# EAGLE library part M16C/6NA(100PIN) (library renesas_mcu)
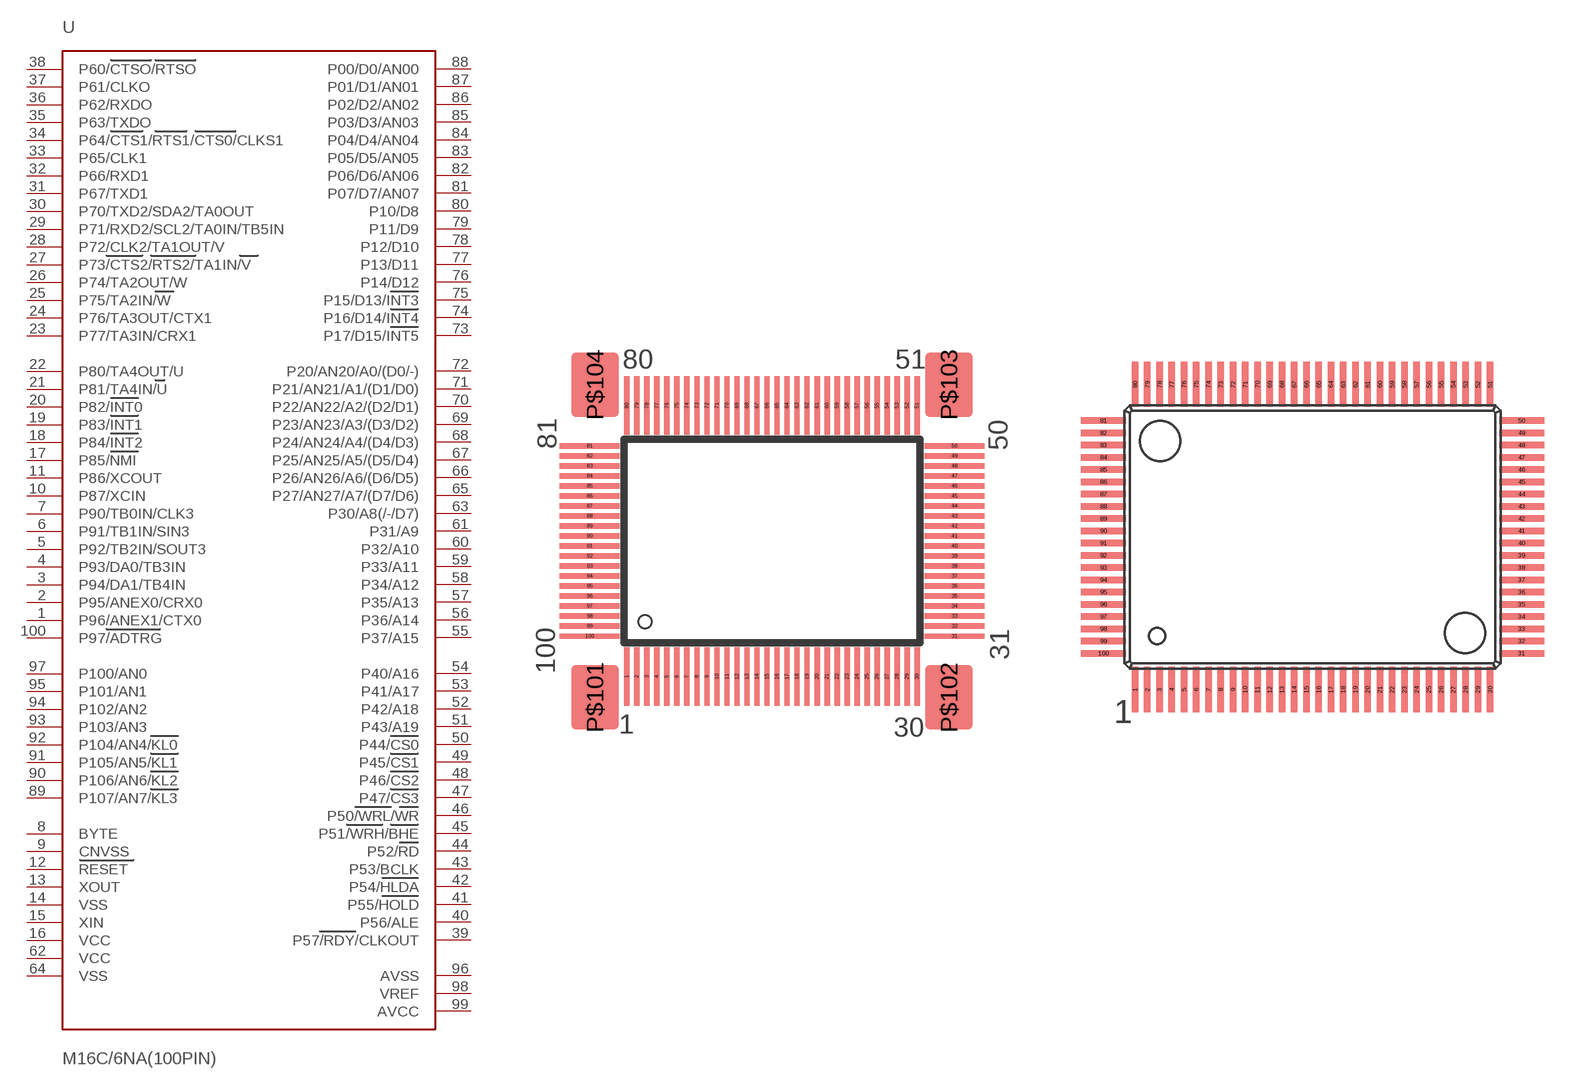
[diagram p7: symbol with the pads of 100P6S-A(SOCKET); footprints 100P6S-A(SOCKET), 100P6S-A]

Designator prefix -

## M16C/6NA(100PIN)2  [100P6S-A(SOCKET)]
1  P96/ANEX1/CTX0
2  P95/ANEX0/CRX0
3  P94/DA1/TB4IN
4  P93/DA0/TB3IN
5  P92/TB2IN/SOUT3
6  P91/TB1IN/SIN3
7  P90/TB0IN/CLK3
8  BYTE  in
9  CNVSS  in
10  P87/XCIN
11  P86/XCOUT
12  RESET  in
13  XOUT  out
14  VSS  pwr
15  XIN  in
16  VCC  pwr
17  P85/NMI  in
18  P84/INT2
19  P83/INT1
20  P82/INT0
21  P81/TA4IN/U
22  P80/TA4OUT/U
23  P77/TA3IN/CRX1
24  P76/TA3OUT/CTX1
25  P75/TA2IN/W
26  P74/TA2OUT/W
27  P73/CTS2/RTS2/TA1IN/V
28  P72/CLK2/TA1OUT/V
29  P71/RXD2/SCL2/TA0IN/TB5IN
30  P70/TXD2/SDA2/TA0OUT
31  P67/TXD1
32  P66/RXD1
33  P65/CLK1
34  P64/CTS1/RTS1/CTS0/CLKS1
35  P63/TXDO
36  P62/RXDO
37  P61/CLKO
38  P60/CTSO/RTSO
39  P57/RDY/CLKOUT
40  P56/ALE
41  P55/HOLD
42  P54/HLDA
43  P53/BCLK
44  P52/RD
45  P51/WRH/BHE
46  P50/WRL/WR
47  P47/CS3
48  P46/CS2
49  P45/CS1
50  P44/CS0
51  P43/A19
52  P42/A18
53  P41/A17
54  P40/A16
55  P37/A15
56  P36/A14
57  P35/A13
58  P34/A12
59  P33/A11
60  P32/A10
61  P31/A9
62  VCC  pwr
63  P30/A8(/-/D7)
64  VSS  pwr
65  P27/AN27/A7/(D7/D6)
66  P26/AN26/A6/(D6/D5)
67  P25/AN25/A5/(D5/D4)
68  P24/AN24/A4/(D4/D3)
69  P23/AN23/A3/(D3/D2)
70  P22/AN22/A2/(D2/D1)
71  P21/AN21/A1/(D1/D0)
72  P20/AN20/A0/(D0/-)
73  P17/D15/INT5
74  P16/D14/INT4
75  P15/D13/INT3
76  P14/D12
77  P13/D11
78  P12/D10
79  P11/D9
80  P10/D8
81  P07/D7/AN07
82  P06/D6/AN06
83  P05/D5/AN05
84  P04/D4/AN04
85  P03/D3/AN03
86  P02/D2/AN02
87  P01/D1/AN01
88  P00/D0/AN00
89  P107/AN7/KL3
90  P106/AN6/KL2
91  P105/AN5/KL1
92  P104/AN4/KL0
93  P103/AN3
94  P102/AN2
95  P101/AN1
96  AVSS  in
97  P100/AN0
98  VREF  in
99  AVCC  in
100  P97/ADTRG

## M16C/6NA(100PIN)1  [100P6S-A]
Pads as for 100P6S-A(SOCKET)

## Footprint 100P6S-A(SOCKET) (pad centres in mm)
smd 0.35 x 3.8: 1 -9.425,-8.8; 2 -8.775,-8.8; 3 -8.125,-8.8; 4 -7.475,-8.8; 5 -6.825,-8.8; 6 -6.175,-8.8; 7 -5.525,-8.8; 8 -4.875,-8.8; 9 -4.225,-8.8; 10 -3.575,-8.8; 11 -2.925,-8.8; 12 -2.275,-8.8; 13 -1.625,-8.8; 14 -0.975,-8.8; 15 -0.325,-8.8; 16 0.325,-8.8; 17 0.975,-8.8; 18 1.625,-8.8; 19 2.275,-8.8; 20 2.925,-8.8; 21 3.575,-8.8; 22 4.225,-8.8; 23 4.875,-8.8; 24 5.525,-8.8; 25 6.175,-8.8; 26 6.825,-8.8; 27 7.475,-8.8; 28 8.125,-8.8; 29 8.775,-8.8; 30 9.425,-8.8; 51 9.425,8.8; 52 8.775,8.8; 53 8.125,8.8; 54 7.475,8.8; 55 6.825,8.8; 56 6.175,8.8; 57 5.525,8.8; 58 4.875,8.8; 59 4.225,8.8; 60 3.575,8.8; 61 2.925,8.8; 62 2.275,8.8; 63 1.625,8.8; 64 0.975,8.8; 65 0.325,8.8; 66 -0.325,8.8; 67 -0.975,8.8; 68 -1.625,8.8; 69 -2.275,8.8; 70 -2.925,8.8; 71 -3.575,8.8; 72 -4.225,8.8; 73 -4.875,8.8; 74 -5.525,8.8; 75 -6.175,8.8; 76 -6.825,8.8; 77 -7.475,8.8; 78 -8.125,8.8; 79 -8.775,8.8; 80 -9.425,8.8
smd 3.9 x 0.35: 31 11.85,-6.175; 32 11.85,-5.525; 33 11.85,-4.875; 34 11.85,-4.225; 35 11.85,-3.575; 36 11.85,-2.925; 37 11.85,-2.275; 38 11.85,-1.625; 39 11.85,-0.975; 40 11.85,-0.325; 41 11.85,0.325; 42 11.85,0.975; 43 11.85,1.625; 44 11.85,2.275; 45 11.85,2.925; 46 11.85,3.575; 47 11.85,4.225; 48 11.85,4.875; 49 11.85,5.525; 50 11.85,6.175; 81 -11.85,6.175; 82 -11.85,5.525; 83 -11.85,4.875; 84 -11.85,4.225; 85 -11.85,3.575; 86 -11.85,2.925; 87 -11.85,2.275; 88 -11.85,1.625; 89 -11.85,0.975; 90 -11.85,0.325; 91 -11.85,-0.325; 92 -11.85,-0.975; 93 -11.85,-1.625; 94 -11.85,-2.275; 95 -11.85,-2.925; 96 -11.85,-3.575; 97 -11.85,-4.225; 98 -11.85,-4.875; 99 -11.85,-5.525; 100 -11.85,-6.175
smd 3.1 x 4.2: P$101 -11.5,-10.15; P$102 11.5,-10.15; P$103 11.5,10.15; P$104 -11.5,10.15

## Footprint 100P6S-A (pad centres in mm)
smd 0.35 x 2.4: 1 -9.425,-8.1; 2 -8.775,-8.1; 3 -8.125,-8.1; 4 -7.475,-8.1; 5 -6.825,-8.1; 6 -6.175,-8.1; 7 -5.525,-8.1; 8 -4.875,-8.1; 9 -4.225,-8.1; 10 -3.575,-8.1; 11 -2.925,-8.1; 12 -2.275,-8.1; 13 -1.625,-8.1; 14 -0.975,-8.1; 15 -0.325,-8.1; 16 0.325,-8.1; 17 0.975,-8.1; 18 1.625,-8.1; 19 2.275,-8.1; 20 2.925,-8.1; 21 3.575,-8.1; 22 4.225,-8.1; 23 4.875,-8.1; 24 5.525,-8.1; 25 6.175,-8.1; 26 6.825,-8.1; 27 7.475,-8.1; 28 8.125,-8.1; 29 8.775,-8.1; 30 9.425,-8.1; 51 9.425,8.1; 52 8.775,8.1; 53 8.125,8.1; 54 7.475,8.1; 55 6.825,8.1; 56 6.175,8.1; 57 5.525,8.1; 58 4.875,8.1; 59 4.225,8.1; 60 3.575,8.1; 61 2.925,8.1; 62 2.275,8.1; 63 1.625,8.1; 64 0.975,8.1; 65 0.325,8.1; 66 -0.325,8.1; 67 -0.975,8.1; 68 -1.625,8.1; 69 -2.275,8.1; 70 -2.925,8.1; 71 -3.575,8.1; 72 -4.225,8.1; 73 -4.875,8.1; 74 -5.525,8.1; 75 -6.175,8.1; 76 -6.825,8.1; 77 -7.475,8.1; 78 -8.125,8.1; 79 -8.775,8.1; 80 -9.425,8.1
smd 2.4 x 0.35: 31 11.1,-6.175; 32 11.1,-5.525; 33 11.1,-4.875; 34 11.1,-4.225; 35 11.1,-3.575; 36 11.1,-2.925; 37 11.1,-2.275; 38 11.1,-1.625; 39 11.1,-0.975; 40 11.1,-0.325; 41 11.1,0.325; 42 11.1,0.975; 43 11.1,1.625; 44 11.1,2.275; 45 11.1,2.925; 46 11.1,3.575; 47 11.1,4.225; 48 11.1,4.875; 49 11.1,5.525; 50 11.1,6.175; 81 -11.1,6.175; 82 -11.1,5.525; 83 -11.1,4.875; 84 -11.1,4.225; 85 -11.1,3.575; 86 -11.1,2.925; 87 -11.1,2.275; 88 -11.1,1.625; 89 -11.1,0.975; 90 -11.1,0.325; 91 -11.1,-0.325; 92 -11.1,-0.975; 93 -11.1,-1.625; 94 -11.1,-2.275; 95 -11.1,-2.925; 96 -11.1,-3.575; 97 -11.1,-4.225; 98 -11.1,-4.875; 99 -11.1,-5.525; 100 -11.1,-6.175